# EAGLE library part NCJ10FI- (library con-neutrik_ag)
3 pol. Klinkenstecker mit 3 pol. Schalter
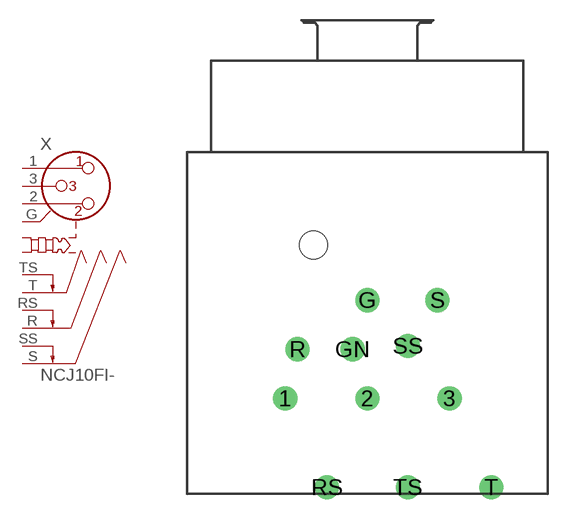
[diagram p0: symbol with the pads of NCJ10FI-H; footprint NCJ10FI-H]

Designator prefix X

## NCJ10FI-H  [NCJ10FI-H]
1  1  pas
2  2  pas
3  3  pas
G  G  pas
R  R  pas
RS  RS  pas
S  S  pas
SS  SS  pas
T  T  pas
TS  TS  pas

## Footprint NCJ10FI-H (pad centres in mm)
drill 1.2 round: 1 -6.1,-18.4; 2 0,-18.4; 3 6.1,-18.4; G 0,-11.1; GN -1.1,-14.75; R -5.2,-14.75; RS -3,-25; S 5.2,-11.1; SS 3,-14.5; T 9.2,-25; TS 3,-25
hole 2.1 at -4,-7